# EAGLE library part G610 (library dec-r)
G610 Core Connector
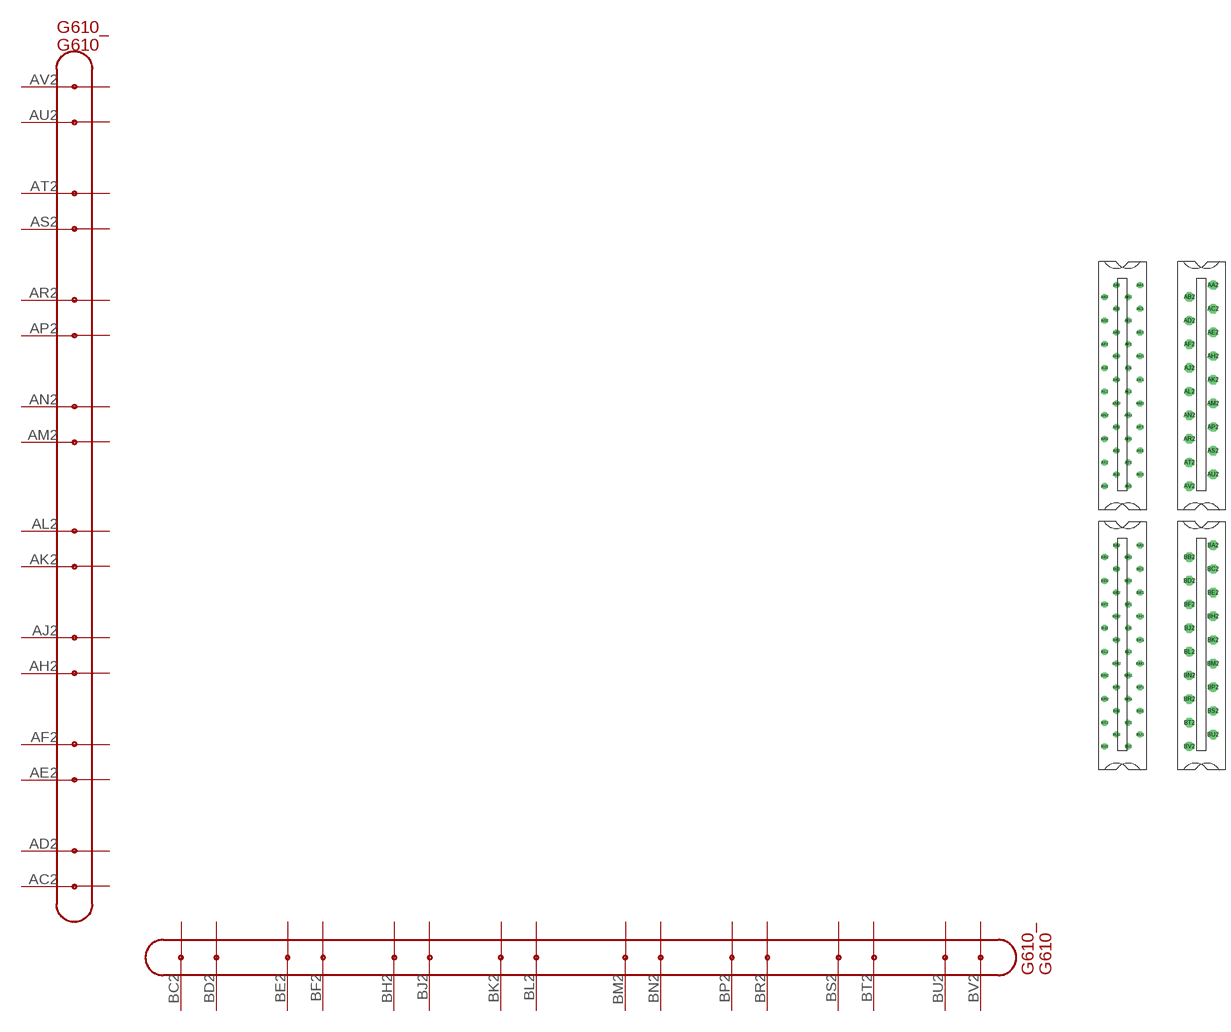
[diagram p104: symbol with the pads of H807-2; footprints H807-2, H800-2]

Designator prefix G610_; gates G$2=G610B G$1=G610A

## G610  [H807-2]
AC2  G$1:C2  pas
AD2  G$1:D2  pas
AE2  G$1:E2  pas
AF2  G$1:F2  pas
AH2  G$1:H2  pas
AJ2  G$1:J2  pas
AK2  G$1:K2  pas
AL2  G$1:L2  pas
AM2  G$1:M2  pas
AN2  G$1:N2  pas
AP2  G$1:P2  pas
AR2  G$1:R2  pas
AS2  G$1:S2  pas
AT2  G$1:T2  pas
AU2  G$1:U2  pas
AV2  G$1:V2  pas
BC2  G$2:C2  pas
BD2  G$2:D2  pas
BE2  G$2:E2  pas
BF2  G$2:F2  pas
BH2  G$2:H2  pas
BJ2  G$2:J2  pas
BK2  G$2:K2  pas
BL2  G$2:L2  pas
BM2  G$2:M2  pas
BN2  G$2:N2  pas
BP2  G$2:P2  pas
BR2  G$2:R2  pas
BS2  G$2:S2  pas
BT2  G$2:T2  pas
BU2  G$2:U2  pas
BV2  G$2:V2  pas

## G610O  [H800-2]
Pads as for H807-2

## G610S  [H807S-2]
Pads as for H807-2

## Footprint H807-2 (pad centres in mm)
Two-wide Female Edge Connector
drill 1.092 octagon: AA1 4.763,60.325; AA2 -1.587,60.325; AB1 1.587,57.15; AB2 -4.763,57.15; AC1 4.763,53.975; AC2 -1.587,53.975; AD1 1.587,50.8; AD2 -4.763,50.8; AE1 4.763,47.625; AE2 -1.587,47.625; AF1 1.587,44.45; AF2 -4.763,44.45; AH1 4.763,41.275; AH2 -1.587,41.275; AJ1 1.587,38.1; AJ2 -4.763,38.1; AK1 4.763,34.925; AK2 -1.587,34.925; AL1 1.587,31.75; AL2 -4.763,31.75; AM1 4.763,28.575; AM2 -1.587,28.575; AN1 1.587,25.4; AN2 -4.763,25.4; AP1 4.763,22.225; AP2 -1.587,22.225; AR1 1.587,19.05; AR2 -4.763,19.05; AS1 4.763,15.875; AS2 -1.587,15.875; AT1 1.587,12.7; AT2 -4.763,12.7; AU1 4.763,9.525; AU2 -1.587,9.525; AV1 1.587,6.35; AV2 -4.763,6.35; BA1 4.763,-9.525; BA2 -1.587,-9.525; BB1 1.587,-12.7; BB2 -4.763,-12.7; BC1 4.763,-15.875; BC2 -1.587,-15.875; BD1 1.587,-19.05; BD2 -4.763,-19.05; BE1 4.763,-22.225; BE2 -1.587,-22.225; BF1 1.587,-25.4; BF2 -4.763,-25.4; BH1 4.763,-28.575; BH2 -1.587,-28.575; BJ1 1.587,-31.75; BJ2 -4.763,-31.75; BK1 4.763,-34.925; BK2 -1.587,-34.925; BL1 1.587,-38.1; BL2 -4.763,-38.1; BM1 4.763,-41.275; BM2 -1.587,-41.275; BN1 1.587,-44.45; BN2 -4.763,-44.45; BP1 4.763,-47.625; BP2 -1.587,-47.625; BR1 1.587,-50.8; BR2 -4.763,-50.8; BS1 4.763,-53.975; BS2 -1.587,-53.975; BT1 1.587,-57.15; BT2 -4.763,-57.15; BU1 4.763,-60.325; BU2 -1.587,-60.325; BV1 1.587,-63.5; BV2 -4.763,-63.5

## Footprint H800-2 (pad centres in mm)
Two-wide Female Edge Connector
drill 1.676 octagon: AA2 3.175,60.325; AB2 -3.175,57.15; AC2 3.175,53.975; AD2 -3.175,50.8; AE2 3.175,47.625; AF2 -3.175,44.45; AH2 3.175,41.275; AJ2 -3.175,38.1; AK2 3.175,34.925; AL2 -3.175,31.75; AM2 3.175,28.575; AN2 -3.175,25.4; AP2 3.175,22.225; AR2 -3.175,19.05; AS2 3.175,15.875; AT2 -3.175,12.7; AU2 3.175,9.525; AV2 -3.175,6.35; BA2 3.175,-9.525; BB2 -3.175,-12.7; BC2 3.175,-15.875; BD2 -3.175,-19.05; BE2 3.175,-22.225; BF2 -3.175,-25.4; BH2 3.175,-28.575; BJ2 -3.175,-31.75; BK2 3.175,-34.925; BL2 -3.175,-38.1; BM2 3.175,-41.275; BN2 -3.175,-44.45; BP2 3.175,-47.625; BR2 -3.175,-50.8; BS2 3.175,-53.975; BT2 -3.175,-57.15; BU2 3.175,-60.325; BV2 -3.175,-63.5

## Footprint H807S-2 (pad centres in mm)
Two-wide Female Edge Connector, Side 2 only
drill 1.092 octagon: AA2 -1.587,60.325; AB2 -4.763,57.15; AC2 -1.587,53.975; AD2 -4.763,50.8; AE2 -1.587,47.625; AF2 -4.763,44.45; AH2 -1.587,41.275; AJ2 -4.763,38.1; AK2 -1.587,34.925; AL2 -4.763,31.75; AM2 -1.587,28.575; AN2 -4.763,25.4; AP2 -1.587,22.225; AR2 -4.763,19.05; AS2 -1.587,15.875; AT2 -4.763,12.7; AU2 -1.587,9.525; AV2 -4.763,6.35; BA2 -1.587,-9.525; BB2 -4.763,-12.7; BC2 -1.587,-15.875; BD2 -4.763,-19.05; BE2 -1.587,-22.225; BF2 -4.763,-25.4; BH2 -1.587,-28.575; BJ2 -4.763,-31.75; BK2 -1.587,-34.925; BL2 -4.763,-38.1; BM2 -1.587,-41.275; BN2 -4.763,-44.45; BP2 -1.587,-47.625; BR2 -4.763,-50.8; BS2 -1.587,-53.975; BT2 -4.763,-57.15; BU2 -1.587,-60.325; BV2 -4.763,-63.5
hole 1.092 at 4.763,60.325
hole 1.092 at 1.587,57.15
hole 1.092 at 4.763,53.975
hole 1.092 at 1.587,50.8
hole 1.092 at 4.763,47.625
hole 1.092 at 1.587,44.45
hole 1.092 at 4.763,41.275
hole 1.092 at 1.587,38.1
hole 1.092 at 4.763,34.925
hole 1.092 at 1.587,31.75
hole 1.092 at 4.763,28.575
hole 1.092 at 4.763,-9.525
hole 1.092 at 1.587,-12.7
hole 1.092 at 4.763,-15.875
hole 1.092 at 1.587,-19.05
hole 1.092 at 4.763,-22.225
hole 1.092 at 1.587,-25.4
hole 1.092 at 4.763,-28.575
hole 1.092 at 1.587,-31.75
hole 1.092 at 4.763,-34.925
hole 1.092 at 1.587,-38.1
hole 1.092 at 4.763,-41.275
hole 1.092 at 1.587,-44.45
hole 1.092 at 4.763,-47.625
hole 1.092 at 1.587,-50.8
hole 1.092 at 4.763,-53.975
hole 1.092 at 1.587,-57.15
hole 1.092 at 4.763,-60.325
hole 1.092 at 1.587,-63.5
hole 1.092 at 1.587,25.4
hole 1.092 at 4.763,22.225
hole 1.092 at 1.587,19.05
hole 1.092 at 4.763,15.875
hole 1.092 at 1.587,12.7
hole 1.092 at 4.763,9.525
hole 1.092 at 1.587,6.35